# EAGLE library part MSMC30-1PH-9P (library P-ACDC)
Astrodyne power supply /w 9 screw connections MSMC-0305 24VDC 1.25A 30W
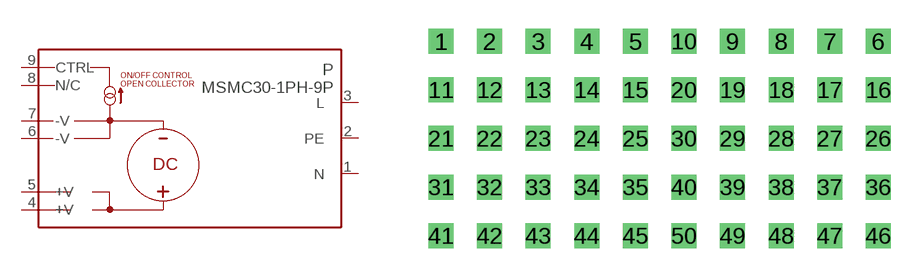
[diagram p6: symbol with the pads of NA-50; footprint NA-50]

Designator prefix P

## MSMC30-1PH-9P  [NA-50]
1  N
2  PE
3  L
4  +V
5  +V
6  -V
7  -V
8  N/C
9  CTRL

## Footprint NA-50 (pad centres in mm)
This is not a circuit board device
drill 0.8 square: 1 -11.43,5.08; 2 -8.89,5.08; 3 -6.35,5.08; 4 -3.81,5.08; 5 -1.27,5.08; 6 11.43,5.08; 7 8.89,5.08; 8 6.35,5.08; 9 3.81,5.08; 10 1.27,5.08; 11 -11.43,2.54; 12 -8.89,2.54; 13 -6.35,2.54; 14 -3.81,2.54; 15 -1.27,2.54; 16 11.43,2.54; 17 8.89,2.54; 18 6.35,2.54; 19 3.81,2.54; 20 1.27,2.54; 21 -11.43,0; 22 -8.89,0; 23 -6.35,0; 24 -3.81,0; 25 -1.27,0; 26 11.43,0; 27 8.89,0; 28 6.35,0; 29 3.81,0; 30 1.27,0; 31 -11.43,-2.54; 32 -8.89,-2.54; 33 -6.35,-2.54; 34 -3.81,-2.54; 35 -1.27,-2.54; 36 11.43,-2.54; 37 8.89,-2.54; 38 6.35,-2.54; 39 3.81,-2.54; 40 1.27,-2.54; 41 -11.43,-5.08; 42 -8.89,-5.08; 43 -6.35,-5.08; 44 -3.81,-5.08; 45 -1.27,-5.08; 46 11.43,-5.08; 47 8.89,-5.08; 48 6.35,-5.08; 49 3.81,-5.08; 50 1.27,-5.08